# Altium integrated library RMCF0805FT1K00.IntLib: 1 symbol
Pins are listed as number, name and electrical type; pins without a type are passive.

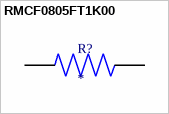
[diagram p0: symbol RMCF0805FT1K00]

## RMCF0805FT1K00
designator R?
MP: RMCF0805FT1K00; Package: None; Price: None; Value: *; Availability: Unavailable
footprint RESC2012X65N
pins: 1, 2